# EAGLE library part LM23610 (library BlueHome)
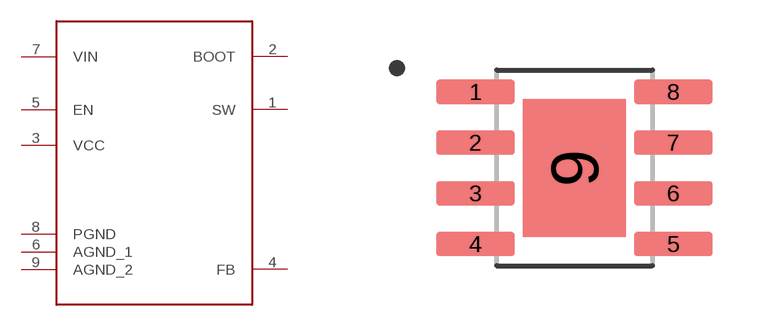
[diagram p20: symbol with the pads of SOIC127P600X170-8N; footprint SOIC127P600X170-8N]

Designator prefix -

## LM23610  [SOIC127P600X170-8N]
1  SW
2  BOOT
3  VCC
4  FB
5  EN
6  AGND_1
7  VIN
8  PGND
9  AGND_2

## Footprint SOIC127P600X170-8N (pad centres in mm)
smd 1.97 x 0.6: 1 -2.475,1.905; 2 -2.475,0.635; 3 -2.475,-0.635; 4 -2.475,-1.905; 5 2.475,-1.905; 6 2.475,-0.635; 7 2.475,0.635; 8 2.475,1.905
smd 2.58 x 3.45: 9 0,0